# Altium footprint library TEXASINSTRUMENTS_PKG_PW0020A.PcbLib: 1 footprints
Each footprint in its own frame and in the unit in brackets; x right, y up, seen from the top. Pads: shape width x height; smd on the part's side, far side on the other; paste and mask are expansions set on the pad; w line width, h text height; cw(c..) or ccw(c..) is an arc to the next point about the centre after c.
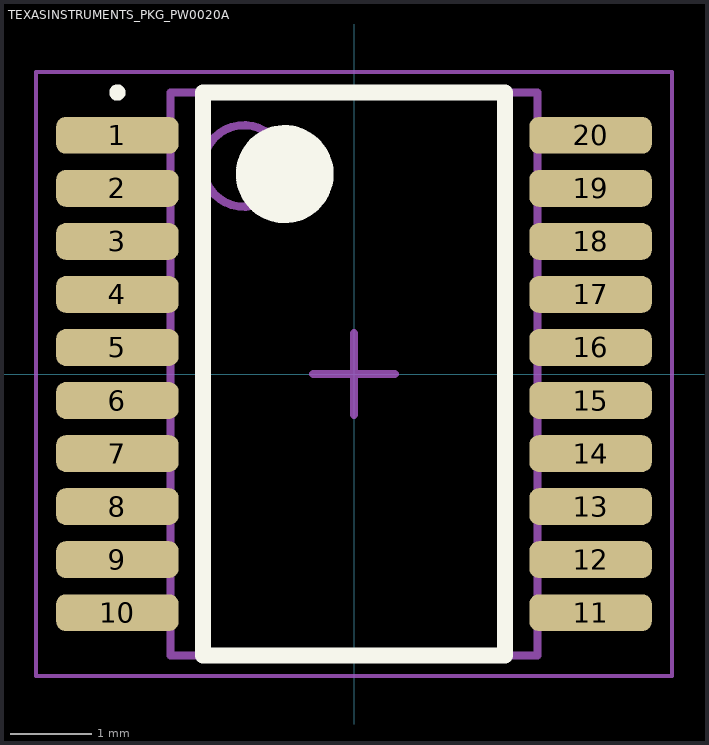
[diagram p0: the footprint, top view; thin cyan lines are the x and y axes]

## TEXASINSTRUMENTS_PKG_PW0020A [mm]
height 1.2
pads (20):
  rrect50% 1.5x0.45 smd mask+0.05: 1(-2.9,2.925) 2(-2.9,2.275) 3(-2.9,1.625) 4(-2.9,0.975) 5(-2.9,0.325) 6(-2.9,-0.325) 7(-2.9,-0.975) 8(-2.9,-1.625) 9(-2.9,-2.275) 10(-2.9,-2.925) 11(2.9,-2.925) 12(2.9,-2.275) 13(2.9,-1.625) 14(2.9,-0.975) 15(2.9,-0.325) 16(2.9,0.325) 17(2.9,0.975) 18(2.9,1.625) 19(2.9,2.275) 20(2.9,2.925)
Top Overlay:
  circle w0.6: c-0.85,2.45 r0.3
  circle w0.1: c-2.9,3.45 r0.05
  lines w0.2: -1.85,-3.45 -1.85,3.45 1.85,3.45 1.85,-3.45 -1.85,-3.45
Mechanical 13:
  circle w0.1: c-1.35,2.55 r0.5
  lines w0.1: -2.25,-3.45 -2.25,3.45 2.25,3.45 2.25,-3.45 -2.25,-3.45
Mechanical 15:
  lines w0.05: -3.9,-3.7 -3.9,3.7 3.9,3.7 3.9,-3.7 -3.9,-3.7
  lines w0.1: -0.5,0 0.5,0 ; 0,-0.5 0,0.5
3D body "TEXASINSTRUMENTS_PKG_PW0020A.stp": height 1.13, standoff 0, extent -3.2,-3.25 3.2,3.25